# Altium footprint library TTL_TO_RS485.PcbLib: 1 footprints
Each footprint in its own frame and in the unit in brackets; x right, y up, seen from the top. Pads: shape width x height; smd on the part's side, far side on the other; paste and mask are expansions set on the pad; w line width, h text height; cw(c..) or ccw(c..) is an arc to the next point about the centre after c.
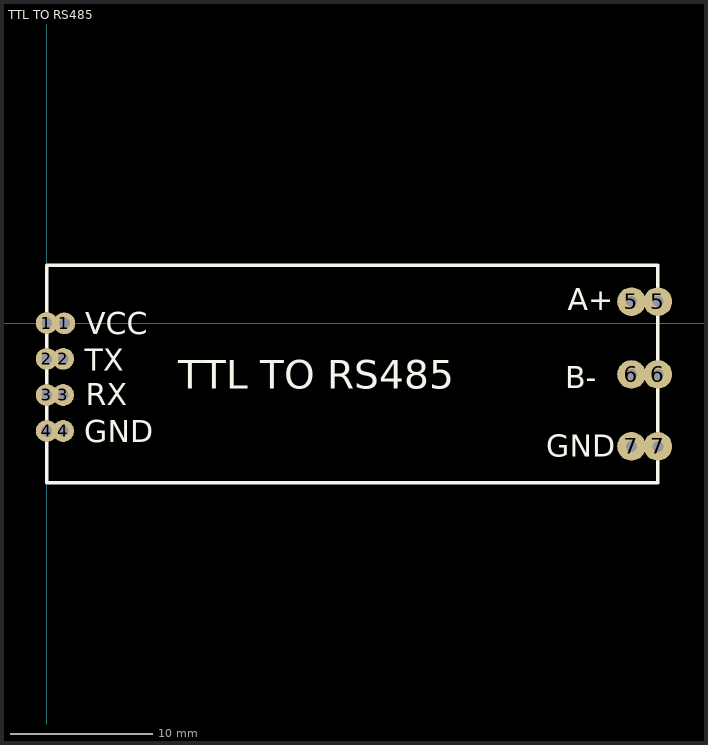
[diagram p0: the footprint, top view; thin cyan lines are the x and y axes]

## TTL TO RS485 [mm]
pads (14):
  round 1.524 hole 0.762: 1(0,0) 1(1.235,-0.02) 2(0,-2.51) 2(1.155,-2.51) 3(0,-5.04) 3(1.155,-5.04) 4(0,-7.56) 4(1.155,-7.56)
  round 2 hole 0.762: 5(40.945,1.5) 5(42.795,1.5) 6(40.945,-3.6) 6(42.795,-3.6) 7(40.945,-8.64) 7(42.795,-8.64)
Top Overlay:
  lines w0.254: 0,-11.175 0,4.04 42.775,4.04 42.795,4.02 42.795,-11.175 42.79,-11.18 40.94,-11.18 1.16,-11.18 1.155,-11.175 ; 0.002,-11.178 1.158,-11.178
  text "GND" at 34.994,-9.366 h1.52
  text "B-" at 36.324,-4.566 h1.52
  text "GND" at 2.614,-8.346 h1.52
  text "RX" at 2.734,-5.746 h1.52
  text "TX" at 2.674,-3.326 h1.52
  text "VCC" at 2.684,-0.796 h1.52
  text "A+" at 36.494,0.894 h1.52
  text "TTL TO RS485" at 9.2,-4.59 h2